# Altium schematic symbol library 0201 Package.SchLib: 13 symbols
Pins are listed as number, name and electrical type; pins without a type are passive.

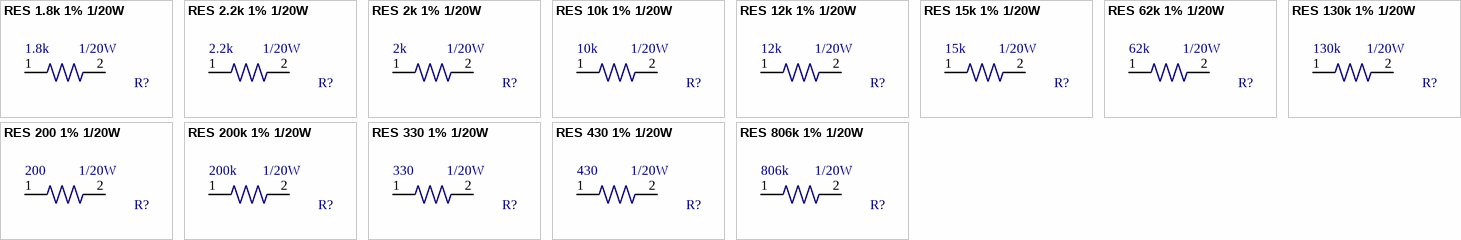
[diagram p0: symbols RES 1.8k 1% 1/20W to RES 806k 1% 1/20W]

## RES 1.8k 1% 1/20W
designator R?, comment Power: 1/20W  Resistence: 1.8k  (hidden comment: RES 0201)
1.8 kOhms ±1% 0.05W, 1/20W Chip Resistor 0201 (0603 Metric) Moisture Resistant Thick Film; Manufacturer 1: Yageo; Manufacturer 1 PN: RC0201FR-071K8L; ComponentLink1Description: Datasheet; ComponentLink1URL: http://www.yageo.com/documents/recent/PYu-RC_Group_51_RoHS_L_9.pdf; Digikey PN: YAG2492CT-ND; Mouser PN: 603-RC0201FR-071K8L
footprint RES SMD 1.8K OHM 1% 1/20W 0201 (1.8 kOhms ±1% 0.05W, 1/20W Chip Resistor 0201 (0603 Metric) Moisture Resistant Thick Film)
pins: 1, 2

## RES 2.2k 1% 1/20W
designator R?, comment Power: 1/20W  Resistence: 2.2k  (hidden comment: RES 0201)
2.2 kOhms ±1% 0.05W, 1/20W Chip Resistor 0201 (0603 Metric) Moisture Resistant Thick Film; Manufacturer 1: Yageo; Manufacturer 1 PN: RC0201FR-072K2L; ComponentLink1Description: Datasheet; ComponentLink1URL: http://www.yageo.com/documents/recent/PYu-RC_Group_51_RoHS_L_9.pdf; Digikey PN: YAG2572CT-ND; Mouser PN: RC0201FR-072K2L
footprint RES SMD 2.2K OHM 1% 1/20W 0201 (2.2 kOhms ±1% 0.05W, 1/20W Chip Resistor 0201 (0603 Metric) Moisture Resistant Thick Film)
pins: 1, 2

## RES 2k 1% 1/20W
designator R?, comment Power: 1/20W  Resistence: 2k  (hidden comment: RES 0201)
2 kOhms ±1% 0.05W, 1/20W Chip Resistor 0201 (0603 Metric) Moisture Resistant Thick Film; Manufacturer 1: Yageo; Manufacturer 1 PN: RC0201FR-072KL; ComponentLink1Description: Datasheet; ComponentLink1URL: http://www.yageo.com/documents/recent/PYu-RC_Group_51_RoHS_L_9.pdf; Digikey PN: YAG2280CT-ND; Mouser PN: 603-RC0201FR-072KL
footprint RES SMD 2K OHM 1% 1/20W 0201 (2 kOhms ±1% 0.05W, 1/20W Chip Resistor 0201 (0603 Metric) Moisture Resistant Thick Film)
pins: 1, 2

## RES 10k 1% 1/20W
designator R?, comment Power: 1/20W  Resistence: 10k  (hidden comment: RES 0201)
10 kOhms ±1% 0.05W, 1/20W Chip Resistor 0201 (0603 Metric) Moisture Resistant Thick Film; Manufacturer 1: Yageo; Manufacturer 1 PN: RC0201FR-0710KL; ComponentLink1Description: Datasheet; ComponentLink1URL: http://www.yageo.com/documents/recent/PYu-RC_Group_51_RoHS_L_9.pdf; Digikey PN: 311-10.0KMCT-ND; Mouser PN: 603-RC0201FR-0710KL
footprint RES SMD 10K OHM 1% 1/20W 0201 (10 kOhms ±1% 0.05W, 1/20W Chip Resistor 0201 (0603 Metric) Moisture Resistant Thick Film)
pins: 1, 2

## RES 12k 1% 1/20W
designator R?, comment Power: 1/20W  Resistence: 12k  (hidden comment: RES 0201)
12 kOhms ±1% 0.05W, 1/20W Chip Resistor 0201 (0603 Metric) Moisture Resistant Thick Film; Manufacturer 1: Yageo; Manufacturer 1 PN: RC0201FR-0712KL; ComponentLink1Description: Datasheet; ComponentLink1URL: http://www.yageo.com/documents/recent/PYu-RC_Group_51_RoHS_L_9.pdf; Digikey PN: 311-12.0KMCT-ND; Mouser PN: 603-RC0201FR-0712KL
footprint RES SMD 12K OHM 1% 1/20W 0201 (12 kOhms ±1% 0.05W, 1/20W Chip Resistor 0201 (0603 Metric) Moisture Resistant Thick Film)
pins: 1, 2

## RES 15k 1% 1/20W
designator R?, comment Power: 1/20W  Resistence: 15k  (hidden comment: RES 0201)
15 kOhms ±1% 0.05W, 1/20W Chip Resistor 0201 (0603 Metric) Moisture Resistant Thick Film; Manufacturer 1: Yageo; Manufacturer 1 PN: RC0201FR-0715KL; ComponentLink1Description: Datasheet; ComponentLink1URL: http://www.yageo.com/documents/recent/PYu-RC_Group_51_RoHS_L_9.pdf; Digikey PN: YAG2423CT-ND; Mouser PN: 603-RC0201FR-0715KL
footprint RES SMD 15K OHM 1% 1/20W 0201 (15 kOhms ±1% 0.05W, 1/20W Chip Resistor 0201 (0603 Metric) Moisture Resistant Thick Film)
pins: 1, 2

## RES 62k 1% 1/20W
designator R?, comment Power: 1/20W  Resistence: 62k  (hidden comment: RES 0201)
62 kOhms ±1% 0.05W, 1/20W Chip Resistor 0201 (0603 Metric) Moisture Resistant Thick Film; Manufacturer 1: Yageo; Manufacturer 1 PN: RC0201FR-0762KL; ComponentLink1Description: Datasheet; ComponentLink1URL: http://www.yageo.com/documents/recent/PYu-RC_Group_51_RoHS_L_9.pdf; Digikey PN: YAG2754CT-ND; Mouser PN: 603-RC0201FR-0762KL
footprint RES SMD 62K OHM 1% 1/20W 0201 (62 kOhms ±1% 0.05W, 1/20W Chip Resistor 0201 (0603 Metric) Moisture Resistant Thick Film)
pins: 1, 2

## RES 130k 1% 1/20W
designator R?, comment Power: 1/20W  Resistence: 130k  (hidden comment: RES 0201)
130 kOhms ±1% 0.05W, 1/20W Chip Resistor 0201 (0603 Metric) Moisture Resistant Thick Film; Manufacturer 1: Yageo; Manufacturer 1 PN: RC0201FR-07130KL; ComponentLink1Description: Datasheet; ComponentLink1URL: http://www.yageo.com/documents/recent/PYu-RC_Group_51_RoHS_L_9.pdf; Digikey PN: YAG2393CT-ND; Mouser PN: 603-RC0201FR-07130KL
footprint RES SMD 130K OHM 1% 1/20W 0201 (130 kOhms ±1% 0.05W, 1/20W Chip Resistor 0201 (0603 Metric) Moisture Resistant Thick Film)
pins: 1, 2

## RES 200 1% 1/20W
designator R?, comment Power: 1/20W  Resistence: 200  (hidden comment: RES 0201)
200 Ohms ±1% 0.05W, 1/20W Chip Resistor 0201 (0603 Metric) Moisture Resistant Thick Film; Manufacturer 1: Yageo; Manufacturer 1 PN: RC0201FR-07200RL; ComponentLink1Description: Datasheet; ComponentLink1URL: http://www.yageo.com/documents/recent/PYu-RC_Group_51_RoHS_L_9.pdf; Digikey PN: YAG2495CT-ND; Mouser PN: 603-RC0201FR-07200RL
footprint RES SMD 200 OHM 1% 1/20W 0201 (200 Ohms ±1% 0.05W, 1/20W Chip Resistor 0201 (0603 Metric) Moisture Resistant Thick Film)
pins: 1, 2

## RES 200k 1% 1/20W
designator R?, comment Power: 1/20W  Resistence: 200k  (hidden comment: RES 0201)
200 kOhms ±1% 0.05W, 1/20W Chip Resistor 0201 (0603 Metric) Moisture Resistant Thick Film; Manufacturer 1: Yageo; Manufacturer 1 PN: RC0201FR-07200KL; ComponentLink1Description: Datasheet; ComponentLink1URL: http://www.yageo.com/documents/recent/PYu-RC_Group_51_RoHS_L_9.pdf; Digikey PN: YAG2275CT-ND; Mouser PN: 603-RC0201FR-07200KL
footprint RES SMD 200K OHM 1% 1/20W 0201 (200 kOhms ±1% 0.05W, 1/20W Chip Resistor 0201 (0603 Metric) Moisture Resistant Thick Film)
pins: 1, 2

## RES 330 1% 1/20W
designator R?, comment Power: 1/20W  Resistence: 330  (hidden comment: RES 0201)
330 Ohms ±1% 0.05W, 1/20W Chip Resistor 0201 (0603 Metric) Moisture Resistant Thick Film; Manufacturer 1: Yageo; Manufacturer 1 PN: RC0201FR-07330RL; ComponentLink1Description: Datasheet; ComponentLink1URL: http://www.yageo.com/documents/recent/PYu-RC_Group_51_RoHS_L_9.pdf; Digikey PN: YAG2604CT-ND; Mouser PN: 603-RC0201FR-07330RL
footprint RES SMD 330 OHM 1% 1/20W 0201 (330 Ohms ±1% 0.05W, 1/20W Chip Resistor 0201 (0603 Metric) Moisture Resistant Thick Film)
pins: 1, 2

## RES 430 1% 1/20W
designator R?, comment Power: 1/20W  Resistence: 430  (hidden comment: RES 0201)
430 Ohms ±1% 0.05W, 1/20W Chip Resistor 0201 (0603 Metric) Moisture Resistant Thick Film; Manufacturer 1: Yageo; Manufacturer 1 PN: RC0201FR-07430RL; ComponentLink1Description: Datasheet; ComponentLink1URL: http://www.yageo.com/documents/recent/PYu-RC_Group_51_RoHS_L_9.pdf; Digikey PN: YAG2669CT-ND; Mouser PN: 603-RC0201FR-07430RL
footprint RES SMD 430 OHM 1% 1/20W 0201 (430 Ohms ±1% 0.05W, 1/20W Chip Resistor 0201 (0603 Metric) Moisture Resistant Thick Film)
pins: 1, 2

## RES 806k 1% 1/20W
designator R?, comment Power: 1/20W  Resistence: 806k  (hidden comment: RES 0201)
806 kOhms ±1% 0.05W, 1/20W Chip Resistor 0201 (0603 Metric) Moisture Resistant Thick Film; Manufacturer 1: Yageo; Manufacturer 1 PN: RC0201FR-07806KL; ComponentLink1Description: Datasheet; ComponentLink1URL: http://www.yageo.com/documents/recent/PYu-RC_Group_51_RoHS_L_9.pdf; Digikey PN: YAG2808CT-ND; Mouser PN: 603-RC0201FR-07806KL
footprint RES SMD 806K OHM 1% 1/20W 0201 (806 kOhms ±1% 0.05W, 1/20W Chip Resistor 0201 (0603 Metric) Moisture Resistant Thick Film)
pins: 1, 2